# Altium schematic symbol library LM2734YMK_NOPB.SchLib: 1 symbol
Pins are listed as number, name and electrical type; pins without a type are passive.

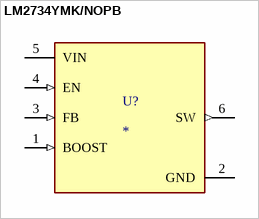
[diagram p0: symbol LM2734YMK/NOPB]

## LM2734YMK/NOPB
designator U?
3V to 20V Input, 1A Step-Down Converter with Light Load Efficiency 6-SOT-23-THIN -40 to 125; MP: LM2734YMK; MF: Texas Instruments; SnapEDA_Link: https://www.snapeda.com/parts/LM2734YMK/Texas+Instruments/view-part/?ref=snap; Package: SOT-23-THN-6 Texas Instruments; Check_prices: https://www.snapeda.com/parts/LM2734YMK/Texas+Instruments/view-part/?ref=eda; Purchase-URL: https://pricing.snapeda.com/search/part/LM2734YMK/?ref=eda; Price: None; Value: *; Availability: In Stock
footprint SOT95P280X110-6N
pins: 1 BOOST (in), 2 GND (power), 3 FB (in), 4 EN (in), 5 VIN (power), 6 SW (out)